# EAGLE library part USB2512B-AEZG (library USB2512B-AEZG)
USB 2.0 Hub Controller 2-Port BC QFN36 Microchip USB2512B-AEZG, USB Controller, 480MBps, USB 2.0, 3.3 V, 36-Pin QFN Source: Datasheet <http://www.microchip.com/mymicrochip/filehandler.aspx?ddocname=en562310>
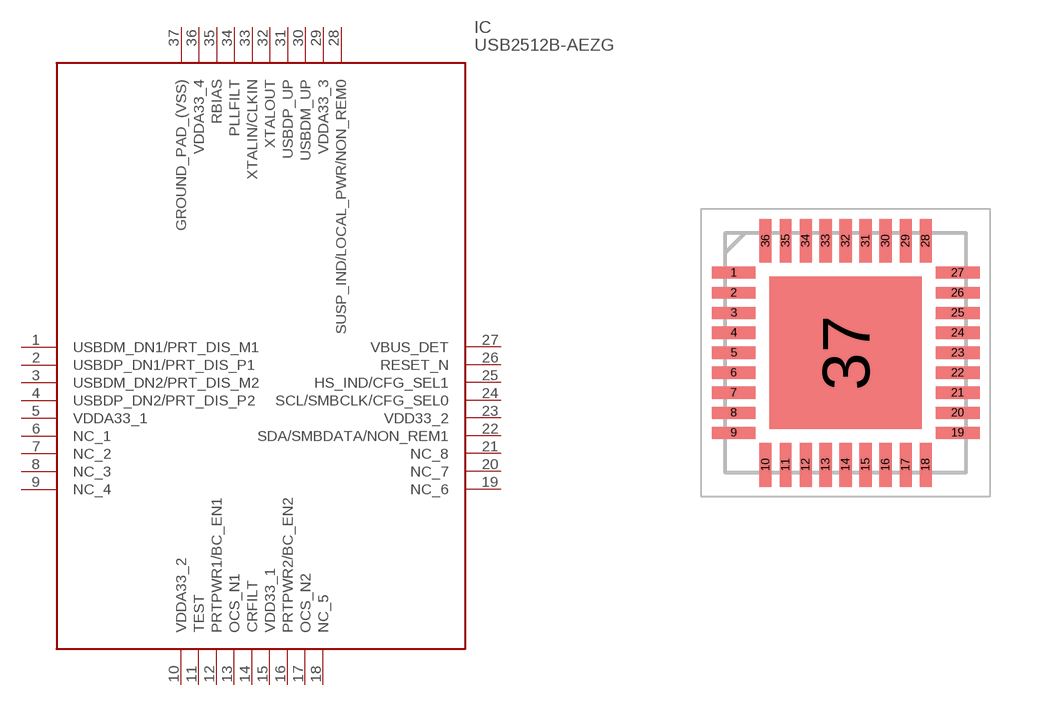
[diagram p0: symbol with the pads of QFN50P600X600X100-37N; footprint QFN50P600X600X100-37N]

Designator prefix IC

## USB2512B-AEZG (Arrow_Part_Number: USB2512B-AEZG; Arrow_Price-Stock: https://www.arrow.com/en/products/usb2512b-aezg/microchip-technology?region=nac; Description: USB 2.0 Hub Controller 2-Port BC QFN36 Microchip USB2512B-AEZG, USB Controller, 480MBps, USB 2.0, 3.3 V, 36-Pin QFN; Height: 1mm; Manufacturer_Name: Microchip; Manufacturer_Part_Number: USB2512B-AEZG; Mouser_Part_Number: 886-USB2512B-AEZG; Mouser_Price-Stock: https://www.mouser.co.uk/ProductDetail/Microchip-Technology/USB2512B-AEZG?qs=pA5MXup5wxGNvJiLqKVEsA%3D%3D)  [QFN50P600X600X100-37N]
1  USBDM_DN1/PRT_DIS_M1
2  USBDP_DN1/PRT_DIS_P1
3  USBDM_DN2/PRT_DIS_M2
4  USBDP_DN2/PRT_DIS_P2
5  VDDA33_1
6  NC_1
7  NC_2
8  NC_3
9  NC_4
10  VDDA33_2
11  TEST
12  PRTPWR1/BC_EN1
13  OCS_N1
14  CRFILT
15  VDD33_1
16  PRTPWR2/BC_EN2
17  OCS_N2
18  NC_5
19  NC_6
20  NC_7
21  NC_8
22  SDA/SMBDATA/NON_REM1
23  VDD33_2
24  SCL/SMBCLK/CFG_SEL0
25  HS_IND/CFG_SEL1
26  RESET_N
27  VBUS_DET
28  SUSP_IND/LOCAL_PWR/NON_REM0
29  VDDA33_3
30  USBDM_UP
31  USBDP_UP
32  XTALOUT
33  XTALIN/CLKIN
34  PLLFILT
35  RBIAS
36  VDDA33_4
37  GROUND_PAD_(VSS)

## Footprint QFN50P600X600X100-37N (pad centres in mm)
36-PIN SQFN
smd 1.1 x 0.3: 1 -2.8,2; 2 -2.8,1.5; 3 -2.8,1; 4 -2.8,0.5; 5 -2.8,0; 6 -2.8,-0.5; 7 -2.8,-1; 8 -2.8,-1.5; 9 -2.8,-2; 19 2.8,-2; 20 2.8,-1.5; 21 2.8,-1; 22 2.8,-0.5; 23 2.8,0; 24 2.8,0.5; 25 2.8,1; 26 2.8,1.5; 27 2.8,2
smd 0.3 x 1.1: 10 -2,-2.8; 11 -1.5,-2.8; 12 -1,-2.8; 13 -0.5,-2.8; 14 0,-2.8; 15 0.5,-2.8; 16 1,-2.8; 17 1.5,-2.8; 18 2,-2.8; 28 2,2.8; 29 1.5,2.8; 30 1,2.8; 31 0.5,2.8; 32 0,2.8; 33 -0.5,2.8; 34 -1,2.8; 35 -1.5,2.8; 36 -2,2.8
smd 3.8 x 3.8: 37 0,0